# Altium schematic symbol library Digital_Memory_Flash_NOR_GOST.SchLib: 1 symbol
Pins are listed as number, name and electrical type; pins without a type are passive.

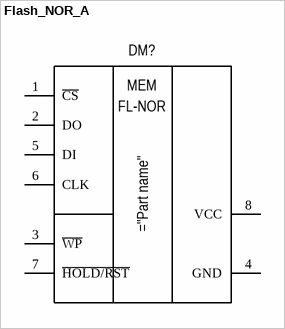
[diagram p0: symbol Flash_NOR_A]

## Flash_NOR_A
designator DM?
pins: 1 ~{CS}, 2 DO, 3 ~{WP}, 4 GND, 5 DI, 6 CLK, 7 ~{HOLD/RST}, 8 VCC
text: MEM; FL-NOR